# Altium footprint library From_EK_191028.PcbLib: 29 footprints (part 1 of 2)
Each footprint in its own frame and in the unit in brackets; x right, y up, seen from the top. Pads: shape width x height; smd on the part's side, far side on the other; paste and mask are expansions set on the pad; w line width, h text height; cw(c..) or ccw(c..) is an arc to the next point about the centre after c.
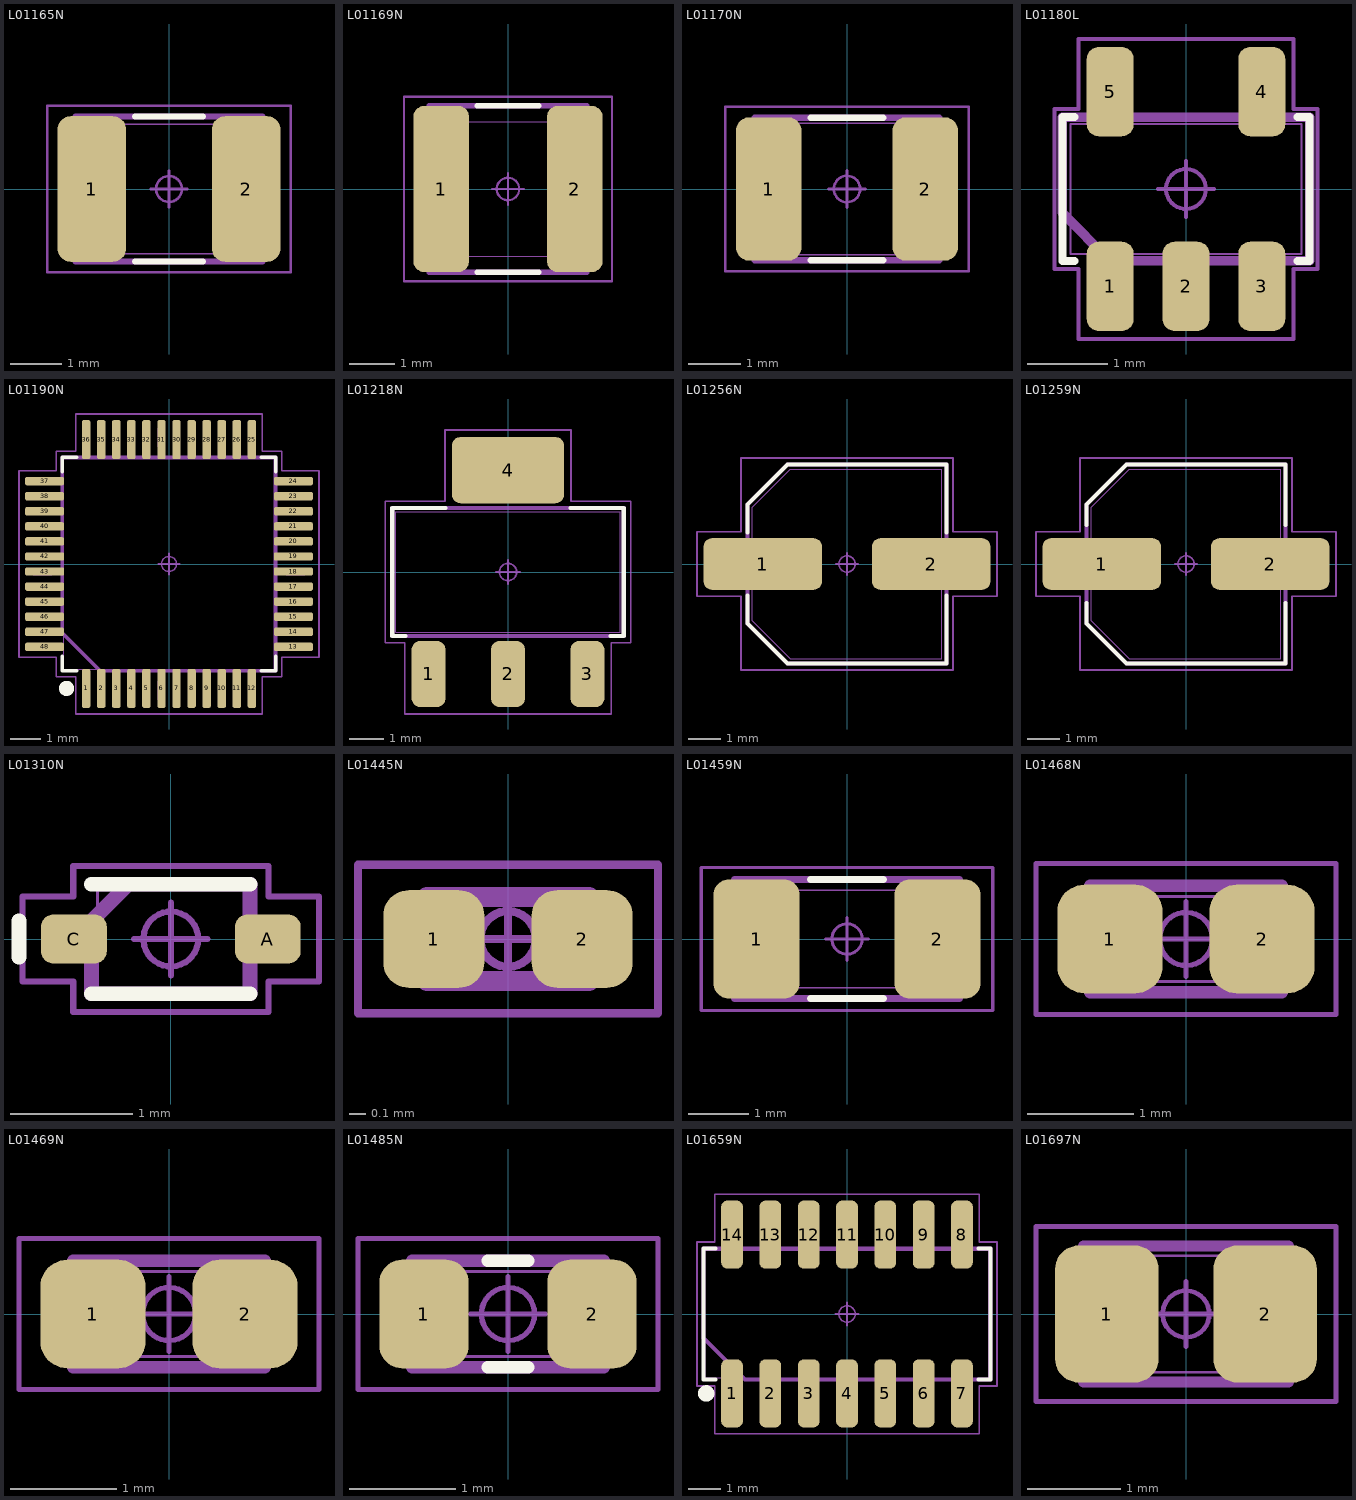
[diagram p0: the footprints below, top view; thin cyan lines are the x and y axes]

## L01165N [mm] "CAPC320X250X210L50N"
height 2.1
pads (2):
  rrect38% 1.32x2.81 smd: 1(-1.49,0) 2(1.49,0)
Top Overlay:
  lines w0.12: -0.65,-1.4 0.65,-1.4 ; -0.65,1.4 0.65,1.4
Mechanical 13:
  lines w0.12: -1.8,-1.4 1.8,-1.4 1.8,1.4 -1.8,1.4 -1.8,-1.4
  text ".Designator" at -3.302,-0.635 h1.5
Mechanical 15:
  circle w0.05: c0,0 r0.25
  lines w0.05: -0.35,0 0.35,0 ; 0,-0.35 0,0.35 ; -2.35,-1.61 2.35,-1.61 2.35,1.61 -2.35,1.61 -2.35,-1.61
Mechanical 31:
  lines w0.025: -1.6,-1.25 1.6,-1.25 ; -1.6,-1.25 -1.6,1.25 ; -1.6,-1.25 -1.6,1.25 ; -1.6,-1.25 -1.1,-1.25 -1.1,1.25 -1.6,1.25 ; -1.6,1.25 1.6,1.25 ; 1.6,-1.25 1.6,1.25 ; 1.6,-1.25 1.1,-1.25 1.1,1.25 1.6,1.25 ; 1.6,-1.25 1.6,1.25
3D body "CAPC320X250X210L50.STEP": height 2.1, standoff 0, extent -1.8,-1.4 1.8,1.4

## L01169N [mm] "CAPC320X300X270L50N"
height 2.7
pads (2):
  rrect40% 1.24x3.7 smd: 1(-1.485,0) 2(1.485,0)
Top Overlay:
  lines w0.12: -0.685,-1.85 0.685,-1.85 ; -0.685,1.85 0.685,1.85
Mechanical 13:
  lines w0.12: -1.75,-1.85 1.75,-1.85 1.75,1.85 -1.75,1.85 -1.75,-1.85
  text ".Designator" at -2.7,-0.5 h1.2
Mechanical 15:
  circle w0.05: c0,0 r0.25
  lines w0.05: -0.35,0 0.35,0 ; 0,-0.35 0,0.35 ; -2.31,-2.05 2.31,-2.05 2.31,2.05 -2.31,2.05 -2.31,-2.05
Mechanical 31:
  lines w0.025: -1.6,-1.5 1.6,-1.5 ; -1.6,-1.5 -1.6,1.5 ; -1.6,-1.5 -1.6,1.5 ; -1.6,-1.5 -1.1,-1.5 -1.1,1.5 -1.6,1.5 ; -1.6,1.5 1.6,1.5 ; 1.6,-1.5 1.6,1.5 ; 1.6,-1.5 1.1,-1.5 1.1,1.5 1.6,1.5 ; 1.6,-1.5 1.6,1.5
3D body "CAPC320X300X270L50.STEP": height 2.7, standoff 0, extent -1.75,-1.85 1.75,1.85

## L01170N [mm] "CAPC320X250X280L50N"
height 2.8
pads (2):
  rrect40% 1.24x2.72 smd: 1(-1.485,0) 2(1.485,0)
Top Overlay:
  lines w0.12: -0.685,-1.35 0.685,-1.35 ; -0.685,1.35 0.685,1.35
Mechanical 13:
  lines w0.12: -1.75,-1.35 1.75,-1.35 1.75,1.35 -1.75,1.35 -1.75,-1.35
  text ".Designator" at -2.7,-0.5 h1.2
Mechanical 15:
  circle w0.05: c0,0 r0.25
  lines w0.05: -0.35,0 0.35,0 ; 0,-0.35 0,0.35 ; -2.31,-1.56 2.31,-1.56 2.31,1.56 -2.31,1.56 -2.31,-1.56
Mechanical 31:
  lines w0.025: -1.6,-1.25 1.6,-1.25 ; -1.6,-1.25 -1.6,1.25 ; -1.6,-1.25 -1.6,1.25 ; -1.6,-1.25 -1.1,-1.25 -1.1,1.25 -1.6,1.25 ; -1.6,1.25 1.6,1.25 ; 1.6,-1.25 1.6,1.25 ; 1.6,-1.25 1.1,-1.25 1.1,1.25 1.6,1.25 ; 1.6,-1.25 1.6,1.25
3D body "CAPC320X250X280L50.STEP": height 2.8, standoff 0, extent -1.75,-1.35 1.75,1.35

## L01180L [mm] "SOT23-5P95_277X150L45X40L"
height 1.5
pads (5):
  rrect51% 0.59x1.12 smd: 1(-0.95,-1.22) 2(0,-1.22) 3(0.95,-1.22) 4(0.95,1.22) 5(-0.95,1.22)
Top Overlay:
  lines w0.1: -1.395,-0.9 -1.55,-0.9 -1.55,0.9 -1.395,0.9 ; 1.395,-0.9 1.55,-0.9 1.55,0.9 1.395,0.9
Mechanical 13:
  lines w0.12: -1.55,-0.3 -0.95,-0.9 1.55,-0.9 1.55,0.9 -1.55,0.9 -1.55,-0.3
  text ".Designator" at -2.25,-0.2 h1
Mechanical 15:
  circle w0.05: c0,0 r0.25
  lines w0.05: -0.35,0 0.35,0 ; 0,-0.35 0,0.35 ; -1.65,-1 -1.65,1 -1.345,1 -1.345,1.88 1.345,1.88 1.345,1 1.65,1 1.65,-1 1.345,-1 1.345,-1.88 -1.345,-1.88 -1.345,-1 -1.65,-1
Mechanical 31:
  lines w0.025: -1.45,-0.813 -1.45,0.813 1.45,0.813 1.45,-0.813 -1.45,-0.813 ; -1.15,-1.388 -0.75,-1.388 -0.75,-0.937 -1.15,-0.937 -1.15,-1.388 ; -1.15,0.937 -0.75,0.937 -0.75,1.388 -1.15,1.388 -1.15,0.937 ; -0.2,-1.388 0.2,-1.388 0.2,-0.937 -0.2,-0.937 -0.2,-1.388 ; 0.75,-1.388 1.15,-1.388 1.15,-0.937 0.75,-0.937 0.75,-1.388 ; 0.75,0.937 1.15,0.937 1.15,1.388 0.75,1.388 0.75,0.937
3D body "SOT23-5P95_277X150L45X40.STEP": height 1.5, standoff 0, extent -1.55,-1.525 1.55,1.525

## L01190N [mm] "QFP48P50_900X900X160L60X20N"
height 1.6
pads (48):
  rrect50% 0.28x1.3 smd: 1(-2.75,-4.13) 2(-2.25,-4.13) 3(-1.75,-4.13) 4(-1.25,-4.13) 5(-0.75,-4.13) 6(-0.25,-4.13) 7(0.25,-4.13) 8(0.75,-4.13) 9(1.25,-4.13) 10(1.75,-4.13) 11(2.25,-4.13) 12(2.75,-4.13) 25(2.75,4.13) 26(2.25,4.13) 27(1.75,4.13) 28(1.25,4.13) 29(0.75,4.13) 30(0.25,4.13) 31(-0.25,4.13) 32(-0.75,4.13) 33(-1.25,4.13) 34(-1.75,4.13) 35(-2.25,4.13) 36(-2.75,4.13)
  rrect50% 1.3x0.28 smd: 13(4.13,-2.75) 14(4.13,-2.25) 15(4.13,-1.75) 16(4.13,-1.25) 17(4.13,-0.75) 18(4.13,-0.25) 19(4.13,0.25) 20(4.13,0.75) 21(4.13,1.25) 22(4.13,1.75) 23(4.13,2.25) 24(4.13,2.75) 37(-4.13,2.75) 38(-4.13,2.25) 39(-4.13,1.75) 40(-4.13,1.25) 41(-4.13,0.75) 42(-4.13,0.25) 43(-4.13,-0.25) 44(-4.13,-0.75) 45(-4.13,-1.25) 46(-4.13,-1.75) 47(-4.13,-2.25) 48(-4.13,-2.75)
Top Overlay:
  circle w0.25: c-3.4,-4.13 r0.125
  lines w0.12: -3.55,-3.07 -3.55,-3.55 -3.07,-3.55 ; -3.55,3.07 -3.55,3.55 -3.07,3.55 ; 3.07,-3.55 3.55,-3.55 3.55,-3.07 ; 3.07,3.55 3.55,3.55 3.55,3.07
Mechanical 13:
  lines w0.12: -3.55,-2.28 -3.55,3.55 3.55,3.55 3.55,-3.55 -2.28,-3.55 -3.55,-2.28
  text ".Designator" at -3.4,-0.6 h1.5
Mechanical 15:
  circle w0.05: c0,0 r0.25
  lines w0.05: -0.35,0 0.35,0 ; 0,-0.35 0,0.35 ; -4.98,-3.09 -3.75,-3.09 -3.75,-3.75 -3.09,-3.75 -3.09,-4.98 3.09,-4.98 3.09,-3.75 3.75,-3.75 3.75,-3.09 4.98,-3.09 4.98,3.09 3.75,3.09 3.75,3.75 3.09,3.75 3.09,4.98 -3.09,4.98 -3.09,3.75 -3.75,3.75 -3.75,3.09 -4.98,3.09 -4.98,-3.09
Mechanical 31:
  drawing of 196 lines, arcs and shapes, not listed
3D body "QFP48P50_900X900X160L60X20.STEP": height 1.6, standoff 0, extent -4.625,-4.625 4.625,4.625

## L01218N [mm] "SOT223-4P230_700X180L95X72N"
height 1.8
pads (4):
  rrect51% 0.98x1.92 smd: 1(-2.3,-2.95) 2(0,-2.95) 3(2.3,-2.95)
  rrect26% 3.25x1.92 smd: 4(0,2.95)
Top Overlay:
  lines w0.12: -2.97,-1.85 -3.35,-1.85 -3.35,1.85 -1.805,1.85 ; 1.805,1.85 3.35,1.85 3.35,-1.85 2.97,-1.85
Mechanical 13:
  lines w0.12: -3.35,-1.85 3.35,-1.85 3.35,1.85 -3.35,1.85 -3.35,-1.85
  text ".Designator" at -3.4,-0.6 h1.5
Mechanical 15:
  circle w0.05: c0,0 r0.25
  lines w0.05: -0.35,0 0.35,0 ; 0,-0.35 0,0.35 ; -3.55,-2.05 -2.99,-2.05 -2.99,-4.11 2.99,-4.11 2.99,-2.05 3.55,-2.05 3.55,2.05 1.825,2.05 1.825,4.11 -1.825,4.11 -1.825,2.05 -3.55,2.05 -3.55,-2.05
Mechanical 31:
  lines w0.025: -3.25,-1.75 3.25,-1.75 3.25,1.75 -3.25,1.75 -3.25,-1.75 ; -2.66,-3.5 -2.66,-2.55 -1.94,-2.55 -1.94,-3.5 -2.66,-3.5 ; -1.5,2.55 -1.5,3.5 1.5,3.5 1.5,2.55 -1.5,2.55 ; -0.36,-3.5 -0.36,-2.55 0.36,-2.55 0.36,-3.5 -0.36,-3.5 ; 1.94,-3.5 1.94,-2.55 2.66,-2.55 2.66,-3.5 1.94,-3.5
3D body "SOT223-4P230_700X180L95X72.STEP": height 1.8, standoff 0, extent -3.35,-3.65 3.35,3.65

## L01256N [mm] "CAPAE580X610D730L260X65N"
height 6.1
pads (2):
  rrect32% 3.64x1.58 smd: 1(-2.58,0) 2(2.58,0)
Top Overlay:
  lines w0.12: -3.05,-0.97 -3.05,-1.83 -1.83,-3.05 3.05,-3.05 3.05,-0.97 ; -3.05,0.97 -3.05,1.83 -1.83,3.05 3.05,3.05 3.05,0.97
Mechanical 13:
  lines w0.12: -3.05,-1.83 -1.83,-3.05 3.05,-3.05 3.05,3.05 -1.83,3.05 -3.05,1.83 -3.05,-1.83
  text ".Designator" at -3.4,-0.6 h1.5
Mechanical 15:
  circle w0.05: c0,0 r0.25
  lines w0.05: -0.35,0 0.35,0 ; 0,-0.35 0,0.35 ; -4.6,-0.99 -4.6,0.99 -3.25,0.99 -3.25,3.25 3.25,3.25 3.25,0.99 4.6,0.99 4.6,-0.99 3.25,-0.99 3.25,-3.25 -3.25,-3.25 -3.25,-0.99 -4.6,-0.99
Mechanical 31:
  lines w0.025: -3.65,-0.325 -1.05,-0.325 -1.05,0.325 -3.65,0.325 -3.65,-0.325 ; -2.9,-1.74 -1.74,-2.9 2.9,-2.9 2.9,2.9 -1.74,2.9 -2.9,1.74 -2.9,-1.74 ; 1.05,-0.325 1.05,0.325 3.65,0.325 3.65,-0.325 1.05,-0.325
3D body "CAPAE580X610D730L260X65.STEP": height 6.1, standoff 0, extent -4.137,-3.05 4.137,3.05

## L01259N [mm] "CAPAE580X800D730L260X65N"
height 8
pads (2):
  rrect32% 3.64x1.58 smd: 1(-2.58,0) 2(2.58,0)
Top Overlay:
  lines w0.12: -3.05,-1.2 -3.05,-1.83 -1.83,-3.05 3.05,-3.05 3.05,-1.2 ; -3.05,1.2 -3.05,1.83 -1.83,3.05 3.05,3.05 3.05,1.2
Mechanical 13:
  lines w0.12: -3.05,-1.83 -1.83,-3.05 3.05,-3.05 3.05,3.05 -1.83,3.05 -3.05,1.83 -3.05,-1.83
  text ".Designator" at -3.4,-0.6 h1.5
Mechanical 15:
  circle w0.05: c0,0 r0.25
  lines w0.05: -0.35,0 0.35,0 ; 0,-0.35 0,0.35 ; -4.6,-0.99 -4.6,0.99 -3.25,0.99 -3.25,3.25 3.25,3.25 3.25,0.99 4.6,0.99 4.6,-0.99 3.25,-0.99 3.25,-3.25 -3.25,-3.25 -3.25,-0.99 -4.6,-0.99
Mechanical 31:
  lines w0.025: -3.65,-0.325 -1.05,-0.325 -1.05,0.325 -3.65,0.325 -3.65,-0.325 ; -2.9,-1.74 -1.74,-2.9 2.9,-2.9 2.9,2.9 -1.74,2.9 -2.9,1.74 -2.9,-1.74 ; 1.05,-0.325 1.05,0.325 3.65,0.325 3.65,-0.325 1.05,-0.325
3D body "CAPAE580X800D730L260X65.STEP": height 8, standoff 0, extent -4.137,-3.05 4.137,3.05

## L01310N [mm] "SODFL160X80X60L20X30N"
height 0.6
pads (2):
  rrect50% 0.54x0.4 smd: A(0.795,0) C(-0.795,0)
Top Overlay:
  lines w0.12: -1.245,-0.15 -1.245,0.15 ; -0.65,-0.45 0.65,-0.45 ; -0.65,0.45 0.65,0.45
Mechanical 13:
  lines w0.12: -0.65,-0.45 0.65,-0.45 0.65,0.45 -0.35,0.45 -0.65,0.15 -0.65,-0.45
  text ".Designator" at -1.778,-0.381 h0.8
Mechanical 15:
  circle w0.05: c0,0 r0.225
  lines w0.05: -0.3,0 0.3,0 ; 0,-0.3 0,0.3 ; -1.215,-0.35 -0.8,-0.35 -0.8,-0.6 0.8,-0.6 0.8,-0.35 1.215,-0.35 1.215,0.35 0.8,0.35 0.8,0.6 -0.8,0.6 -0.8,0.35 -1.215,0.35 -1.215,-0.35
Mechanical 31:
  lines w0.025: -0.8,-0.15 -0.8,0.15 -0.6,0.15 -0.6,-0.15 -0.8,-0.15 ; -0.6,-0.4 0.6,-0.4 0.6,0.4 -0.6,0.4 -0.6,-0.4 ; 0.6,-0.15 0.8,-0.15 0.8,0.15 0.6,0.15 0.6,-0.15
3D body "SODFL160X80X60L20X30.STEP": height 0.6, standoff 0, extent -0.85,-0.45 0.85,0.45

## L01445N [mm] "Capacitor, Chip; 0.95 mm L X 0.50 mm W X 0.60 mm H body"
height 0.6
pads (2):
  rrect52% 0.6x0.58 smd: 1(-0.44,0) 2(0.44,0)
Mechanical 13:
  lines w0.12: -0.48,-0.25 0.48,-0.25 0.48,0.25 -0.48,0.25 -0.48,-0.25
  text ".Designator" at -2.667,-0.508 h1.2
Mechanical 15:
  circle w0.05: c0,0 r0.165
  lines w0.05: -0.22,0 0.22,0 ; 0,-0.22 0,0.22 ; -0.89,-0.44 0.89,-0.44 0.89,0.44 -0.89,0.44 -0.89,-0.44
Mechanical 31:
  lines w0.025: -0.475,-0.25 0.475,-0.25 ; -0.475,-0.25 -0.475,0.25 ; -0.475,-0.25 -0.475,0.25 ; -0.475,-0.25 -0.225,-0.25 -0.225,0.25 -0.475,0.25 ; -0.475,0.25 0.475,0.25 ; 0.475,-0.25 0.475,0.25 ; 0.475,-0.25 0.225,-0.25 0.225,0.25 0.475,0.25 ; 0.475,-0.25 0.475,0.25
3D body "CAPC95X50X60L25.STEP": height 0.6, standoff 0, extent -0.475,-0.25 0.475,0.25

## L01459N [mm] "CAPC330X160X180L60N"
height 1.8
pads (2):
  rrect35% 1.42x1.96 smd: 1(-1.49,0) 2(1.49,0)
Top Overlay:
  lines w0.12: -0.6,-0.98 0.6,-0.98 ; -0.6,0.98 0.6,0.98
Mechanical 13:
  lines w0.12: -1.85,-0.98 -1.85,0.98 1.85,0.98 1.85,-0.98 -1.85,-0.98
  text ".Designator" at -3.302,-0.635 h1.5
Mechanical 15:
  circle w0.05: c0,0 r0.25
  lines w0.05: -0.35,0 0.35,0 ; 0,-0.35 0,0.35 ; -2.4,-1.18 -2.4,1.18 2.4,1.18 2.4,-1.18 -2.4,-1.18
Mechanical 31:
  lines w0.025: -1.65,-0.8 -1.05,-0.8 -1.05,0.8 -1.65,0.8 ; -1.65,-0.8 -1.65,0.8 ; -1.65,-0.8 -1.65,0.8 ; -1.65,-0.8 1.65,-0.8 ; -1.65,0.8 1.65,0.8 ; 1.65,-0.8 1.65,0.8 ; 1.65,-0.8 1.05,-0.8 1.05,0.8 1.65,0.8 ; 1.65,-0.8 1.65,0.8
3D body "CAPC330X160X180L60.STEP": height 1.8, standoff 0, extent -1.85,-0.975 1.85,0.975

## L01468N [mm] "CAPC160X80X90L40N"
height 0.9
pads (2):
  rrect51% 0.99x1.02 smd: 1(-0.715,0) 2(0.715,0)
Mechanical 13:
  lines w0.12: -0.9,-0.5 -0.9,0.5 0.9,0.5 0.9,-0.5 -0.9,-0.5
  text ".Designator" at -1.8,-0.325 h0.8
Mechanical 15:
  circle w0.05: c0,0 r0.25
  lines w0.05: -0.35,0 0.35,0 ; 0,-0.35 0,0.35 ; -1.41,-0.71 -1.41,0.71 1.41,0.71 1.41,-0.71 -1.41,-0.71
Mechanical 31:
  lines w0.025: -0.8,-0.4 -0.4,-0.4 -0.4,0.4 -0.8,0.4 ; -0.8,-0.4 -0.8,0.4 ; -0.8,-0.4 -0.8,0.4 ; -0.8,-0.4 0.8,-0.4 ; -0.8,0.4 0.8,0.4 ; 0.8,-0.4 0.8,0.4 ; 0.8,-0.4 0.4,-0.4 0.4,0.4 0.8,0.4 ; 0.8,-0.4 0.8,0.4
3D body "CAPC160X80X90L40.STEP": height 0.9, standoff 0, extent -0.9,-0.5 0.9,0.5

## L01469N [mm] "CAPC160X80X100L40N"
height 1
pads (2):
  rrect51% 0.99x1.02 smd: 1(-0.715,0) 2(0.715,0)
Mechanical 13:
  lines w0.12: -0.9,-0.5 0.9,-0.5 0.9,0.5 -0.9,0.5 -0.9,-0.5
  text ".Designator" at -1.8,-0.4 h0.8
Mechanical 15:
  circle w0.05: c0,0 r0.25
  lines w0.05: -0.35,0 0.35,0 ; 0,-0.35 0,0.35 ; -1.41,-0.71 1.41,-0.71 1.41,0.71 -1.41,0.71 -1.41,-0.71
Mechanical 31:
  lines w0.025: -0.8,-0.4 0.8,-0.4 ; -0.8,-0.4 -0.8,0.4 ; -0.8,-0.4 -0.8,0.4 ; -0.8,-0.4 -0.4,-0.4 -0.4,0.4 -0.8,0.4 ; -0.8,0.4 0.8,0.4 ; 0.8,-0.4 0.8,0.4 ; 0.8,-0.4 0.4,-0.4 0.4,0.4 0.8,0.4 ; 0.8,-0.4 0.8,0.4
3D body "CAPC160X80X100L40.STEP": height 1, standoff 0, extent -0.9,-0.5 0.9,0.5

## L01485N [mm] "RESC160X80X60L30N"
height 0.6
pads (2):
  rrect50% 0.84x1.02 smd: 1(-0.79,0) 2(0.79,0)
Top Overlay:
  lines w0.12: -0.19,-0.5 0.19,-0.5 ; -0.19,0.5 0.19,0.5
Mechanical 13:
  lines w0.12: -0.9,-0.5 -0.9,0.5 0.9,0.5 0.9,-0.5 -0.9,-0.5
  text ".Designator" at -1.8,-0.3 h0.8
Mechanical 15:
  circle w0.05: c0,0 r0.25
  lines w0.05: -0.35,0 0.35,0 ; 0,-0.35 0,0.35 ; -1.41,-0.71 -1.41,0.71 1.41,0.71 1.41,-0.71 -1.41,-0.71
Mechanical 31:
  lines w0.025: -0.8,-0.4 -0.5,-0.4 -0.5,0.4 -0.8,0.4 ; -0.8,-0.4 -0.8,0.4 ; -0.8,-0.4 -0.8,0.4 ; -0.8,-0.4 0.8,-0.4 ; -0.8,0.4 0.8,0.4 ; 0.8,-0.4 0.8,0.4 ; 0.8,-0.4 0.5,-0.4 0.5,0.4 0.8,0.4 ; 0.8,-0.4 0.8,0.4
3D body "RESC160X80X60L30.STEP": height 0.6, standoff 0, extent -0.9,-0.5 0.9,0.5

## L01659N [mm] "SOIC14P117_865X600X180L83X41N"
height 1.8
pads (14):
  rrect52% 0.66x2.07 smd: 1(-3.51,-2.425) 2(-2.34,-2.425) 3(-1.17,-2.425) 4(0,-2.425) 5(1.17,-2.425) 6(2.34,-2.425) 7(3.51,-2.425) 8(3.51,2.425) 9(2.34,2.425) 10(1.17,2.425) 11(0,2.425) 12(-1.17,2.425) 13(-2.34,2.425) 14(-3.51,2.425)
Top Overlay:
  circle w0.25: c-4.3,-2.425 r0.125
  lines w0.12: -4.02,-2 -4.38,-2 -4.38,2 -4.02,2 ; 4.02,-2 4.38,-2 4.38,2 4.02,2
Mechanical 13:
  lines w0.12: -4.38,-0.73 -3.11,-2 4.38,-2 4.38,2 -4.38,2 -4.38,-0.73
  text ".Designator" at -3.4,-0.6 h1.5
Mechanical 15:
  circle w0.05: c0,0 r0.25
  lines w0.05: -0.35,0 0.35,0 ; 0,-0.35 0,0.35 ; -4.58,-2.2 -4.58,2.2 -4.04,2.2 -4.04,3.66 4.04,3.66 4.04,2.2 4.58,2.2 4.58,-2.2 4.04,-2.2 4.04,-3.66 -4.04,-3.66 -4.04,-2.2 -4.58,-2.2
Mechanical 31:
  lines w0.025: -4.325,-1.95 -4.325,1.95 4.325,1.95 4.325,-1.95 -4.325,-1.95 ; -3.715,-3 -3.305,-3 -3.305,-2.165 -3.715,-2.165 -3.715,-3 ; -3.715,2.165 -3.305,2.165 -3.305,3 -3.715,3 -3.715,2.165 ; -2.545,-3 -2.135,-3 -2.135,-2.165 -2.545,-2.165 -2.545,-3 ; -2.545,2.165 -2.135,2.165 -2.135,3 -2.545,3 -2.545,2.165 ; -1.375,-3 -0.965,-3 -0.965,-2.165 -1.375,-2.165 -1.375,-3 ; -1.375,2.165 -0.965,2.165 -0.965,3 -1.375,3 -1.375,2.165 ; -0.205,-3 0.205,-3 0.205,-2.165 -0.205,-2.165 -0.205,-3 ; -0.205,2.165 0.205,2.165 0.205,3 -0.205,3 -0.205,2.165 ; 0.965,-3 1.375,-3 1.375,-2.165 0.965,-2.165 0.965,-3 ; 0.965,2.165 1.375,2.165 1.375,3 0.965,3 0.965,2.165 ; 2.135,-3 2.545,-3 2.545,-2.165 2.135,-2.165 2.135,-3 ; 2.135,2.165 2.545,2.165 2.545,3 2.135,3 2.135,2.165 ; 3.305,-3 3.715,-3 3.715,-2.165 3.305,-2.165 3.305,-3 ; 3.305,2.165 3.715,2.165 3.715,3 3.305,3 3.305,2.165
3D body "SOIC14P117_865X600X180L83X41.STEP": height 1.8, standoff 0, extent -4.375,-3.1 4.375,3.1

## L01697N [mm] "CAPC200X125X150L50N"
height 1.5
pads (2):
  rrect45% 1.11x1.47 smd: 1(-0.85,0) 2(0.85,0)
Mechanical 13:
  lines w0.12: -1.1,-0.73 -1.1,0.73 1.1,0.73 1.1,-0.73 -1.1,-0.73
  text ".Designator" at -2.667,-0.508 h1.2
Mechanical 15:
  circle w0.05: c0,0 r0.25
  lines w0.05: -0.35,0 0.35,0 ; 0,-0.35 0,0.35 ; -1.61,-0.94 -1.61,0.94 1.61,0.94 1.61,-0.94 -1.61,-0.94
Mechanical 31:
  lines w0.025: -1,-0.625 -0.5,-0.625 -0.5,0.625 -1,0.625 ; -1,-0.625 -1,0.625 ; -1,-0.625 -1,0.625 ; -1,-0.625 1,-0.625 ; -1,0.625 1,0.625 ; 1,-0.625 1,0.625 ; 1,-0.625 0.5,-0.625 0.5,0.625 1,0.625 ; 1,-0.625 1,0.625
3D body "CAPC200X125X150L50.STEP": height 1.5, standoff 0, extent -1.1,-0.725 1.1,0.725